# Altium footprint library PcbLib1.PcbLib: 2 footprints
Each footprint in its own frame and in the unit in brackets; x right, y up, seen from the top. Pads: shape width x height; smd on the part's side, far side on the other; paste and mask are expansions set on the pad; w line width, h text height; cw(c..) or ccw(c..) is an arc to the next point about the centre after c.
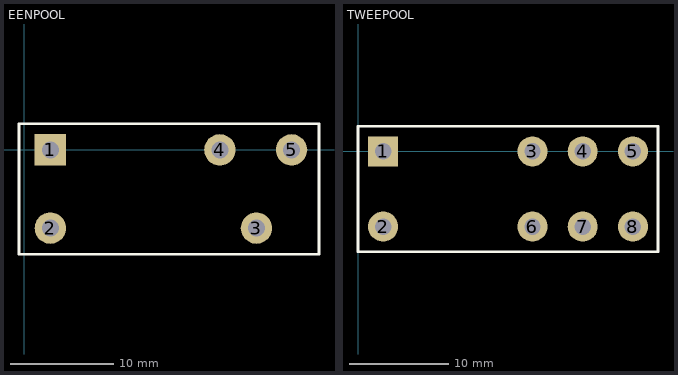
[diagram p0: the footprints below, top view; thin cyan lines are the x and y axes]

## EENPOOL [mil]
pads (5):
  rect 120x120 hole 65: 1(100,0)
  round 120 hole 65: 2(100,-300) 3(890,-300) 4(750,0) 5(1025,0)
Top Overlay:
  lines w10: -20,-400 -20,100 1130,100 1130,-400 -20,-400

## TWEEPOOL [mil]
pads (8):
  rect 120x120 hole 65: 1(100,0)
  round 120 hole 65: 2(100,-300) 3(695,0) 4(895,0) 5(1095,0) 6(695,-300) 7(895,-300) 8(1095,-300)
Top Overlay:
  lines w10: 0,-400 0,100 1195,100 1195,-400 0,-400